# Altium schematic symbol library CN HDR 6POS 3.96MM.Schlib: 1 symbol
Pins are listed as number, name and electrical type; pins without a type are passive.

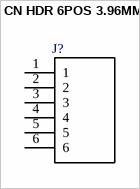
[diagram p0: symbol CN HDR 6POS 3.96MM]

## CN HDR 6POS 3.96MM
designator J?, comment CONN HEADER VERT 6POS 3.96MM  (value not drawn)
MF: TE Connectivity; MP: 1877285-6; Current Rating: 7.5A; Voltage Rating: 250VAC; SnapEDA_Link: https://www.snapeda.com/parts/1877285-6/TE%20Connectivity/view-part/2371244/?ref=snap; Digikey: A99849-ND; Digikey Link: https://www.digikey.ca/product-detail/en/te-connectivity-amp-connectors/1877285-6/A99849-ND/2000097; Supplier 1: Digi-Key; Supplier Part Number 1: A99849-ND
footprint CN HDR 6POS 3.96MM
pins: 1, 2, 3, 4, 5, 6